# Altium footprint library DC005.PCBLIB: 1 footprints
Each footprint in its own frame and in the unit in brackets; x right, y up, seen from the top. Pads: shape width x height; smd on the part's side, far side on the other; paste and mask are expansions set on the pad; w line width, h text height; cw(c..) or ccw(c..) is an arc to the next point about the centre after c.
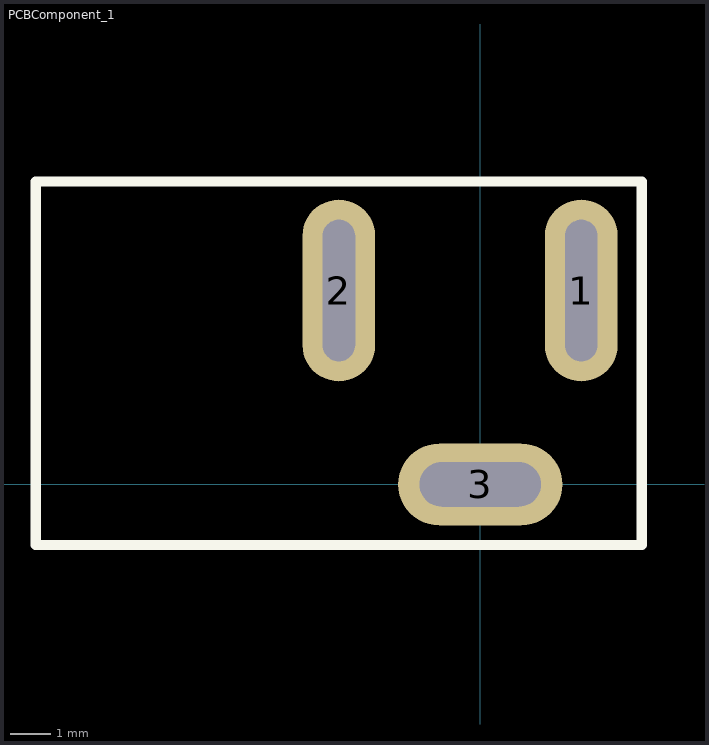
[diagram p0: the footprint, top view; thin cyan lines are the x and y axes]

## PCBComponent_1 [mm]
pads (3):
  oval 1.8x4.5 hole 0.8 slot 3.5 at 90 deg: 1(2.5,4.8) 2(-3.5,4.8)
  oval 4.064x2.032 hole 1.1 slot 3 at 0 deg: 3(0,0)
TopOverlay:
  lines w0.254: -11,-1.5 4,-1.5 4,7.5 -11,7.5 -11,-1.5